# Altium schematic symbol library SCH_ESP32-C3-MINI-1_V1.1_20210414_Library.SchLib: 68 symbols
Pins are listed as number, name and electrical type; pins without a type are passive.

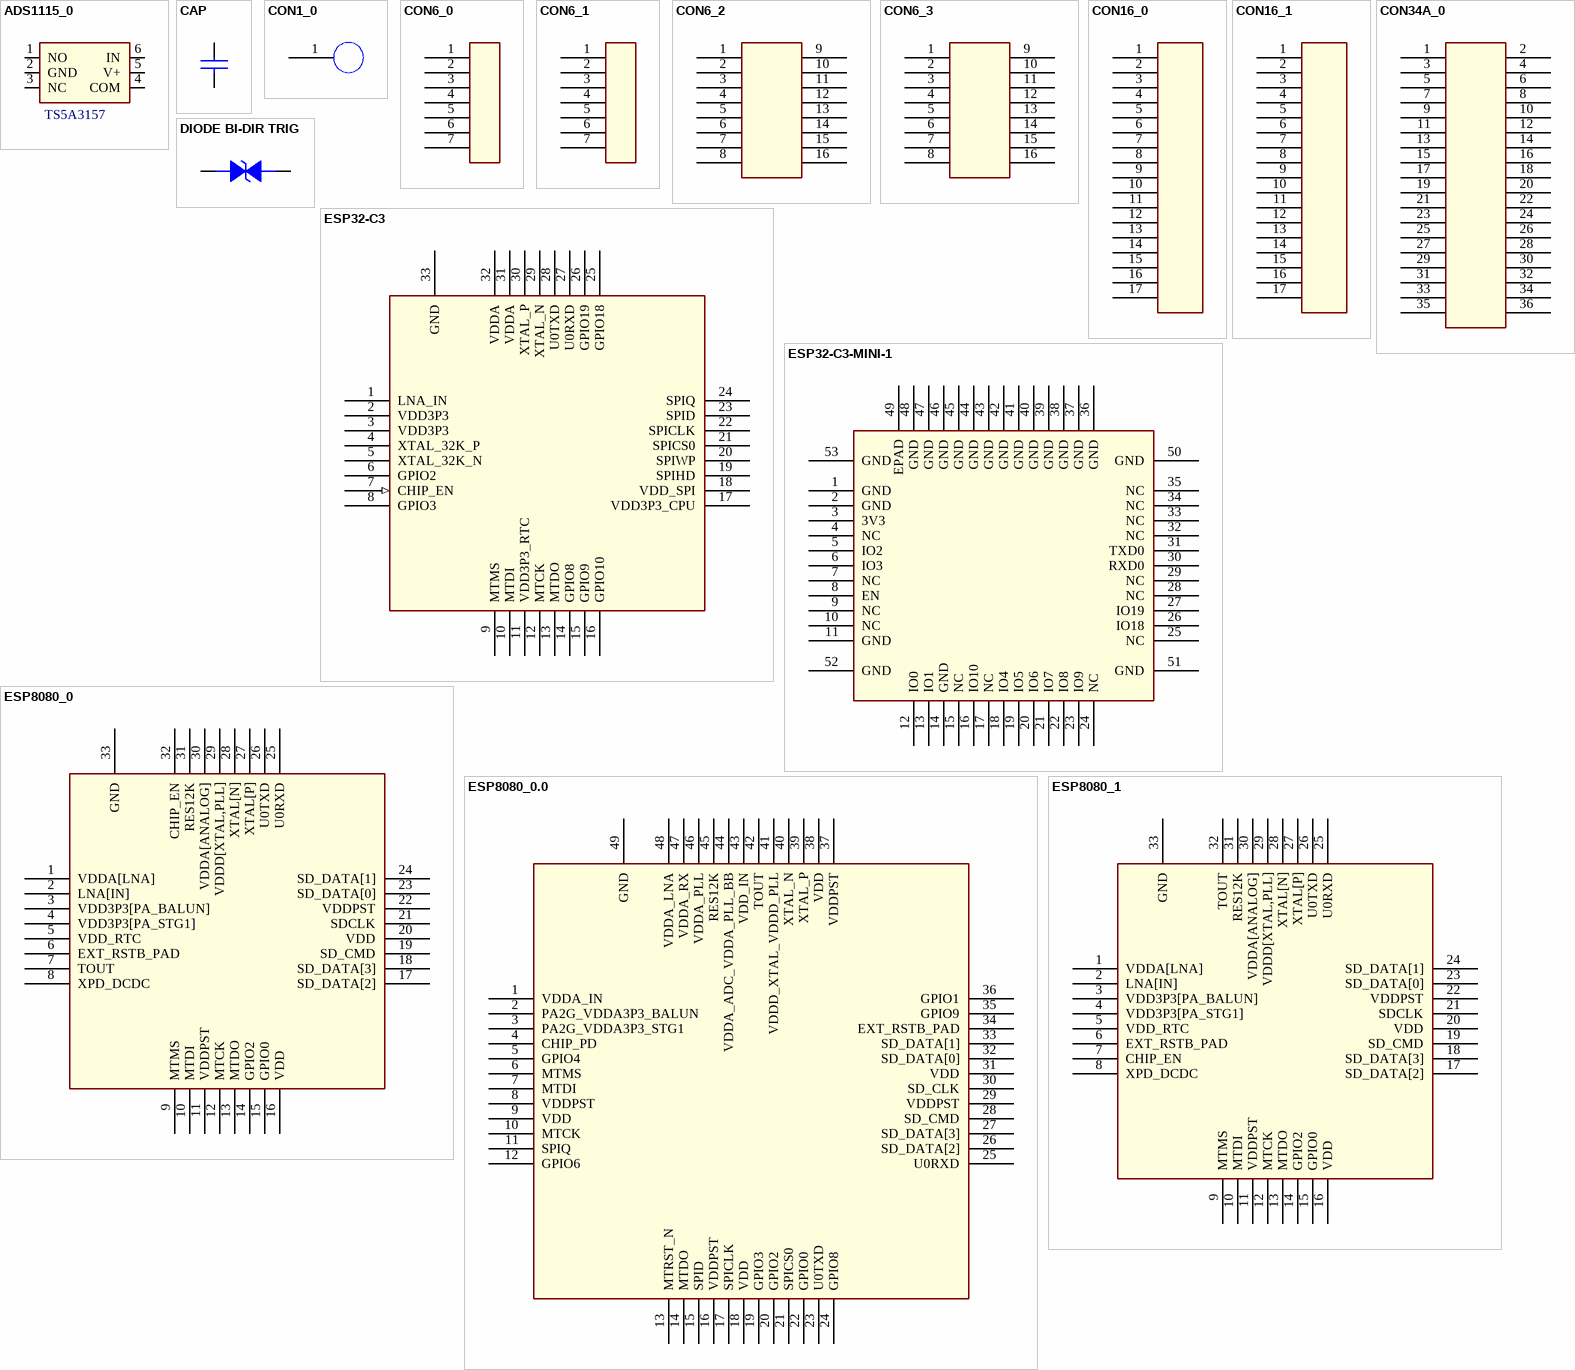
[diagram p0: symbols ADS1115_0 to ESP8080_1]

## ADS1115_0
designator U?, comment TS5A3157
pins: 1 NO, 2 GND (power), 3 NC, 4 COM, 5 V+ (power), 6 IN

## CAP
designator C?
pins: 1, 2

## CON1_0
designator J?
pins: 1

## CON6_0
designator J?
pins: 1, 2, 3, 4, 5, 6, 7 6

## CON6_1
designator J?
pins: 1, 2, 3, 4, 5, 6, 7

## CON6_2
designator J?
pins: 1, 2, 3, 4, 5, 6, 7, 8, 9, 10, 11, 12, 13, 14, 15, 16

## CON6_3
designator J?
pins: 1, 2, 3, 4, 5, 6, 7, 8, 9, 10, 11, 12, 13, 14, 15, 16

## CON16_0
designator J?
pins: 1, 2, 3, 4, 5, 6, 7, 8, 9, 10, 11, 12, 13, 14, 15, 16, 17

## CON16_1
designator J?
pins: 1, 2, 3, 4, 5, 6, 7, 8, 9, 10, 11, 12, 13, 14, 15, 16, 17

## CON34A_0
designator J?
pins: 1, 2, 3, 4, 5, 6, 7, 8, 9, 10, 11, 12, 13, 14, 15, 16, 17, 18, 19, 20, 21, 22, 23, 24, 25, 26, 27, 28, 29, 30, 31, 32, 33, 34, 35, 36

## DIODE BI-DIR TRIG
designator D?
footprint ESD0402
pins: 1, 2

## ESP32-C3
designator U?
pins: 1 LNA_IN, 2 VDD3P3 (power), 3 VDD3P3 (power), 4 XTAL_32K_P, 5 XTAL_32K_N, 6 GPIO2, 7 CHIP_EN (in), 8 GPIO3, 9 MTMS, 10 MTDI, 11 VDD3P3_RTC (power), 12 MTCK, 13 MTDO, 14 GPIO8, 15 GPIO9, 16 GPIO10, 17 VDD3P3_CPU (power), 18 VDD_SPI (power), 19 SPIHD, 20 SPIWP, 21 SPICS0, 22 SPICLK, 23 SPID, 24 SPIQ, 25 GPIO18, 26 GPIO19, 27 U0RXD, 28 U0TXD, 29 XTAL_N, 30 XTAL_P, 31 VDDA (power), 32 VDDA (power), 33 GND (power)

## ESP32-C3-MINI-1
designator U?
pins: 1 GND (power), 2 GND (power), 3 3V3 (power), 4 NC, 5 IO2, 6 IO3, 7 NC, 8 EN, 9 NC, 10 NC, 11 GND (power), 12 IO0, 13 IO1, 14 GND (power), 15 NC, 16 IO10, 17 NC, 18 IO4, 19 IO5, 20 IO6, 21 IO7, 22 IO8, 23 IO9, 24 NC, 25 NC, 26 IO18, 27 IO19, 28 NC, 29 NC, 30 RXD0, 31 TXD0, 32 NC, 33 NC, 34 NC, 35 NC, 36 GND (power), 37 GND (power), 38 GND (power), 39 GND (power), 40 GND (power), 41 GND (power), 42 GND (power), 43 GND (power), 44 GND (power), 45 GND (power), 46 GND (power), 47 GND (power), 48 GND (power), 49 EPAD (power), 50 GND (power), 51 GND (power), 52 GND (power), 53 GND (power)

## ESP8080_0
designator U?
pins: 1 VDDA[LNA] (power), 2 LNA[IN] (hiz), 3 VDD3P3[PA_BALUN] (power), 4 VDD3P3[PA_STG1] (power), 5 VDD_RTC (hiz), 6 EXT_RSTB_PAD (hiz), 7 TOUT (hiz), 8 XPD_DCDC (hiz), 9 MTMS, 10 MTDI, 11 VDDPST (power), 12 MTCK, 13 MTDO, 14 GPIO2, 15 GPIO0, 16 VDD (power), 17 SD_DATA[2], 18 SD_DATA[3], 19 SD_CMD, 20 VDD (power), 21 SDCLK, 22 VDDPST (power), 23 SD_DATA[0], 24 SD_DATA[1], 25 U0RXD, 26 U0TXD, 27 XTAL[P], 28 XTAL[N], 29 VDDD[XTAL,PLL] (power), 30 VDDA[ANALOG] (power), 31 RES12K, 32 CHIP_EN, 33 GND (power)

## ESP8080_0.0
designator U?
pins: 1 VDDA_IN, 2 PA2G_VDDA3P3_BALUN (power), 3 PA2G_VDDA3P3_STG1 (power), 4 CHIP_PD, 5 GPIO4 (hiz), 6 MTMS, 7 MTDI, 8 VDDPST (power), 9 VDD (power), 10 MTCK, 11 SPIQ, 12 GPIO6 (hiz), 13 MTRST_N, 14 MTDO, 15 SPID, 16 VDDPST (power), 17 SPICLK, 18 VDD (power), 19 GPIO3 (hiz), 20 GPIO2 (power), 21 SPICS0, 22 GPIO0 (hiz), 23 U0TXD, 24 GPIO8 (hiz), 25 U0RXD, 26 SD_DATA[2], 27 SD_DATA[3], 28 SD_CMD, 29 VDDPST (power), 30 SD_CLK, 31 VDD (power), 32 SD_DATA[0], 33 SD_DATA[1], 34 EXT_RSTB_PAD, 35 GPIO9 (hiz), 36 GPIO1 (hiz), 37 VDDPST (power), 38 VDD (power), 39 XTAL_P, 40 XTAL_N, 41 VDDD_XTAL_VDDD_PLL (power), 42 TOUT, 43 VDD_IN (power), 44 VDDA_ADC_VDDA_PLL_BB (power), 45 RES12K, 46 VDDA_PLL (power), 47 VDDA_RX (power), 48 VDDA_LNA (power), 49 GND (power)

## ESP8080_1
designator U?
pins: 1 VDDA[LNA] (power), 2 LNA[IN] (hiz), 3 VDD3P3[PA_BALUN] (power), 4 VDD3P3[PA_STG1] (power), 5 VDD_RTC (hiz), 6 EXT_RSTB_PAD (hiz), 7 CHIP_EN (hiz), 8 XPD_DCDC (hiz), 9 MTMS, 10 MTDI, 11 VDDPST (power), 12 MTCK, 13 MTDO, 14 GPIO2, 15 GPIO0, 16 VDD (power), 17 SD_DATA[2], 18 SD_DATA[3], 19 SD_CMD, 20 VDD (power), 21 SDCLK, 22 VDDPST (power), 23 SD_DATA[0], 24 SD_DATA[1], 25 U0RXD, 26 U0TXD, 27 XTAL[P], 28 XTAL[N], 29 VDDD[XTAL,PLL] (power), 30 VDDA[ANALOG] (power), 31 RES12K, 32 TOUT, 33 GND (power)

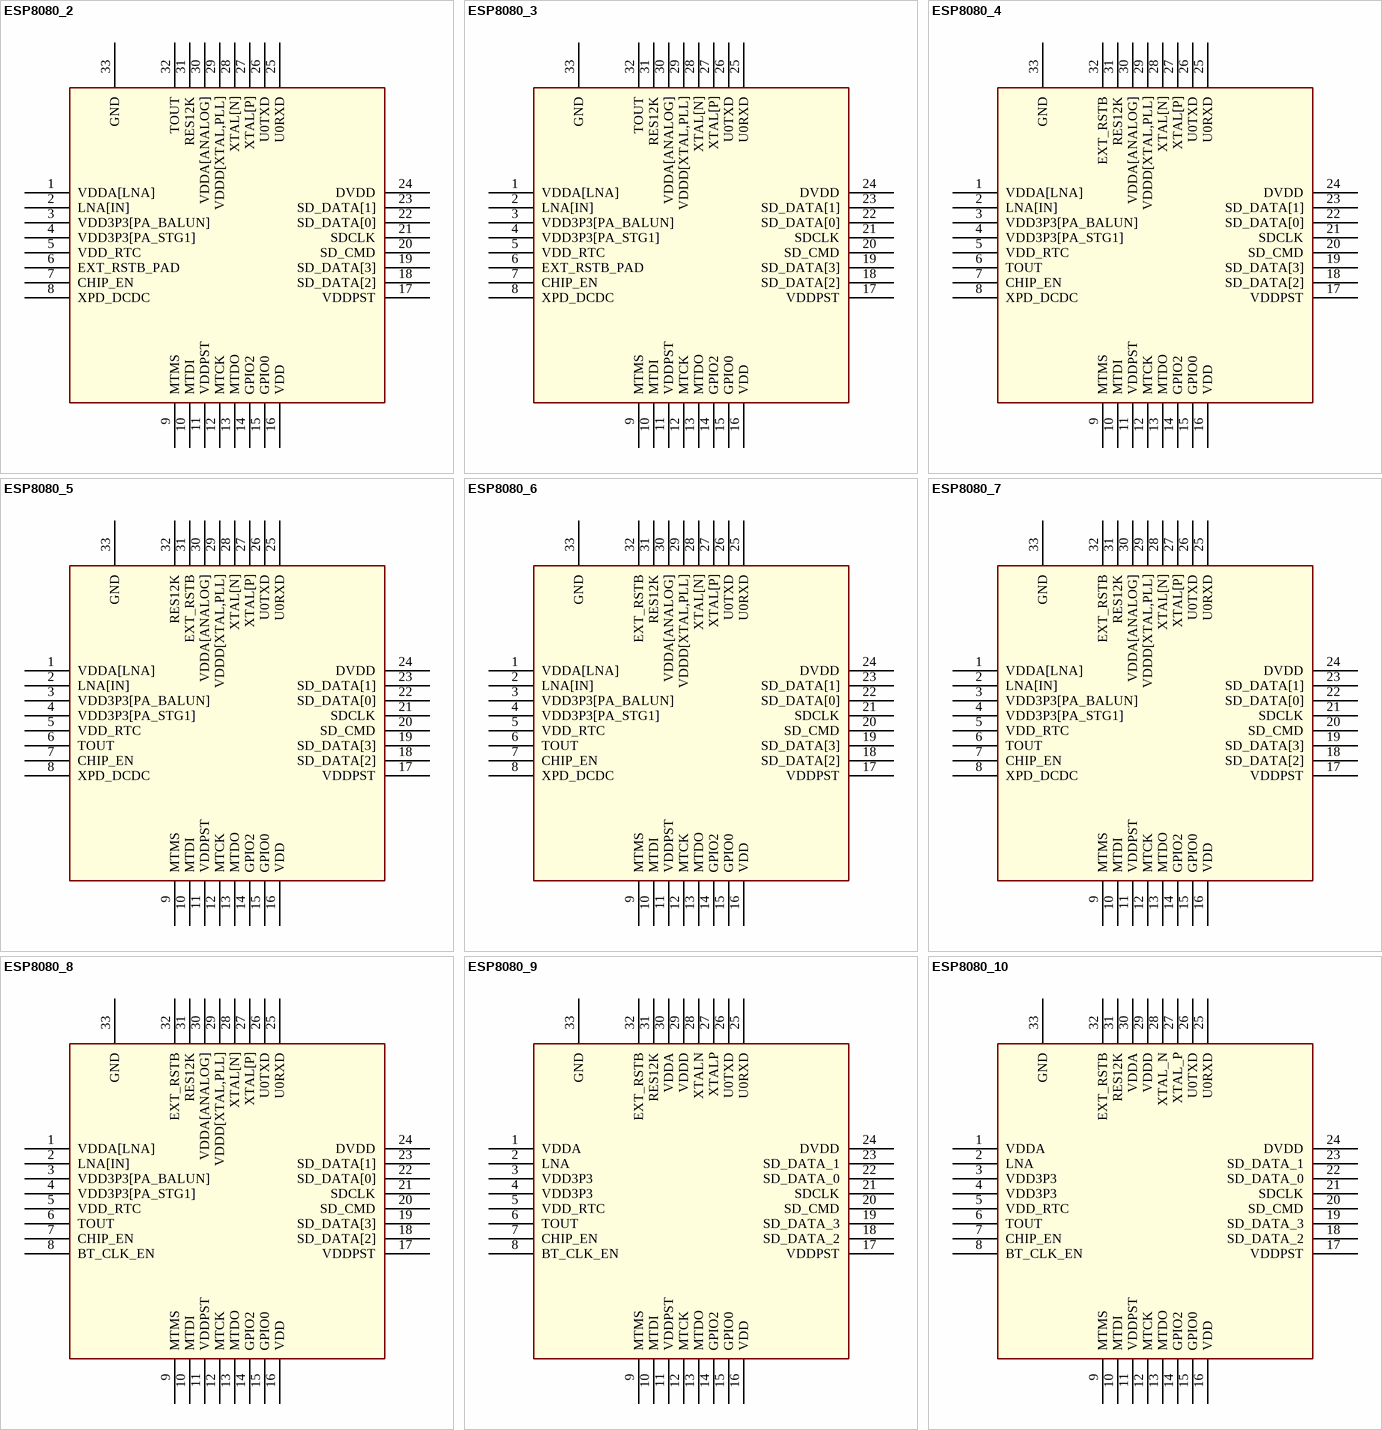
[diagram p1: symbols ESP8080_2 to ESP8080_10]

## ESP8080_2
designator U?
pins: 1 VDDA[LNA] (power), 2 LNA[IN] (hiz), 3 VDD3P3[PA_BALUN] (power), 4 VDD3P3[PA_STG1] (power), 5 VDD_RTC (hiz), 6 EXT_RSTB_PAD (hiz), 7 CHIP_EN (hiz), 8 XPD_DCDC (hiz), 9 MTMS, 10 MTDI, 11 VDDPST (power), 12 MTCK, 13 MTDO, 14 GPIO2, 15 GPIO0, 16 VDD (power), 17 VDDPST, 18 SD_DATA[2], 19 SD_DATA[3], 20 SD_CMD (power), 21 SDCLK, 22 SD_DATA[0] (power), 23 SD_DATA[1], 24 DVDD, 25 U0RXD, 26 U0TXD, 27 XTAL[P], 28 XTAL[N], 29 VDDD[XTAL,PLL] (power), 30 VDDA[ANALOG] (power), 31 RES12K, 32 TOUT, 33 GND (power)

## ESP8080_3
designator U?
pins: 1 VDDA[LNA] (power), 2 LNA[IN] (hiz), 3 VDD3P3[PA_BALUN] (power), 4 VDD3P3[PA_STG1] (power), 5 VDD_RTC (hiz), 6 EXT_RSTB_PAD (hiz), 7 CHIP_EN (hiz), 8 XPD_DCDC (hiz), 9 MTMS, 10 MTDI, 11 VDDPST (power), 12 MTCK, 13 MTDO, 14 GPIO2, 15 GPIO0, 16 VDD (power), 17 VDDPST (power), 18 SD_DATA[2], 19 SD_DATA[3], 20 SD_CMD, 21 SDCLK, 22 SD_DATA[0], 23 SD_DATA[1], 24 DVDD (power), 25 U0RXD, 26 U0TXD, 27 XTAL[P], 28 XTAL[N], 29 VDDD[XTAL,PLL] (power), 30 VDDA[ANALOG] (power), 31 RES12K, 32 TOUT, 33 GND (power)

## ESP8080_4
designator U?
pins: 1 VDDA[LNA] (power), 2 LNA[IN] (hiz), 3 VDD3P3[PA_BALUN] (power), 4 VDD3P3[PA_STG1] (power), 5 VDD_RTC (hiz), 6 TOUT (hiz), 7 CHIP_EN (hiz), 8 XPD_DCDC (hiz), 9 MTMS, 10 MTDI, 11 VDDPST (power), 12 MTCK, 13 MTDO, 14 GPIO2, 15 GPIO0, 16 VDD (power), 17 VDDPST (power), 18 SD_DATA[2], 19 SD_DATA[3], 20 SD_CMD, 21 SDCLK, 22 SD_DATA[0], 23 SD_DATA[1], 24 DVDD (power), 25 U0RXD, 26 U0TXD, 27 XTAL[P], 28 XTAL[N], 29 VDDD[XTAL,PLL] (power), 30 VDDA[ANALOG] (power), 31 RES12K, 32 EXT_RSTB, 33 GND (power)

## ESP8080_5
designator U?
pins: 1 VDDA[LNA] (power), 2 LNA[IN] (hiz), 3 VDD3P3[PA_BALUN] (power), 4 VDD3P3[PA_STG1] (power), 5 VDD_RTC (hiz), 6 TOUT (hiz), 7 CHIP_EN (hiz), 8 XPD_DCDC (hiz), 9 MTMS, 10 MTDI, 11 VDDPST (power), 12 MTCK, 13 MTDO, 14 GPIO2, 15 GPIO0, 16 VDD (power), 17 VDDPST (power), 18 SD_DATA[2], 19 SD_DATA[3], 20 SD_CMD, 21 SDCLK, 22 SD_DATA[0], 23 SD_DATA[1], 24 DVDD (power), 25 U0RXD, 26 U0TXD, 27 XTAL[P], 28 XTAL[N], 29 VDDD[XTAL,PLL] (power), 30 VDDA[ANALOG] (power), 31 EXT_RSTB, 32 RES12K, 33 GND (power)

## ESP8080_6
designator U?
pins: 1 VDDA[LNA] (power), 2 LNA[IN] (hiz), 3 VDD3P3[PA_BALUN] (power), 4 VDD3P3[PA_STG1] (power), 5 VDD_RTC (hiz), 6 TOUT (hiz), 7 CHIP_EN (hiz), 8 XPD_DCDC (hiz), 9 MTMS, 10 MTDI, 11 VDDPST (power), 12 MTCK, 13 MTDO, 14 GPIO2, 15 GPIO0, 16 VDD (power), 17 VDDPST (power), 18 SD_DATA[2], 19 SD_DATA[3], 20 SD_CMD, 21 SDCLK, 22 SD_DATA[0], 23 SD_DATA[1], 24 DVDD (power), 25 U0RXD, 26 U0TXD, 27 XTAL[P], 28 XTAL[N], 29 VDDD[XTAL,PLL] (power), 30 VDDA[ANALOG] (power), 31 RES12K, 32 EXT_RSTB, 33 GND (power)

## ESP8080_7
designator U?
pins: 1 VDDA[LNA] (power), 2 LNA[IN] (hiz), 3 VDD3P3[PA_BALUN] (power), 4 VDD3P3[PA_STG1] (power), 5 VDD_RTC (hiz), 6 TOUT (hiz), 7 CHIP_EN (hiz), 8 XPD_DCDC (hiz), 9 MTMS, 10 MTDI, 11 VDDPST (power), 12 MTCK, 13 MTDO, 14 GPIO2, 15 GPIO0, 16 VDD (hiz), 17 VDDPST (power), 18 SD_DATA[2], 19 SD_DATA[3], 20 SD_CMD, 21 SDCLK, 22 SD_DATA[0], 23 SD_DATA[1], 24 DVDD (hiz), 25 U0RXD, 26 U0TXD, 27 XTAL[P], 28 XTAL[N], 29 VDDD[XTAL,PLL] (power), 30 VDDA[ANALOG] (power), 31 RES12K, 32 EXT_RSTB, 33 GND (power)

## ESP8080_8
designator U?
pins: 1 VDDA[LNA] (power), 2 LNA[IN] (hiz), 3 VDD3P3[PA_BALUN] (power), 4 VDD3P3[PA_STG1] (power), 5 VDD_RTC (hiz), 6 TOUT (hiz), 7 CHIP_EN (hiz), 8 BT_CLK_EN (hiz), 9 MTMS, 10 MTDI, 11 VDDPST (power), 12 MTCK, 13 MTDO, 14 GPIO2, 15 GPIO0, 16 VDD (hiz), 17 VDDPST (power), 18 SD_DATA[2], 19 SD_DATA[3], 20 SD_CMD, 21 SDCLK, 22 SD_DATA[0], 23 SD_DATA[1], 24 DVDD (hiz), 25 U0RXD, 26 U0TXD, 27 XTAL[P], 28 XTAL[N], 29 VDDD[XTAL,PLL] (power), 30 VDDA[ANALOG] (power), 31 RES12K, 32 EXT_RSTB, 33 GND (power)

## ESP8080_9
designator U?
pins: 1 VDDA (power), 2 LNA (hiz), 3 VDD3P3 (power), 4 VDD3P3 (power), 5 VDD_RTC (hiz), 6 TOUT (hiz), 7 CHIP_EN (hiz), 8 BT_CLK_EN (hiz), 9 MTMS, 10 MTDI, 11 VDDPST (power), 12 MTCK, 13 MTDO, 14 GPIO2, 15 GPIO0, 16 VDD (hiz), 17 VDDPST (power), 18 SD_DATA_2, 19 SD_DATA_3, 20 SD_CMD, 21 SDCLK, 22 SD_DATA_0, 23 SD_DATA_1, 24 DVDD (hiz), 25 U0RXD, 26 U0TXD, 27 XTALP, 28 XTALN, 29 VDDD (power), 30 VDDA (power), 31 RES12K, 32 EXT_RSTB, 33 GND (power)

## ESP8080_10
designator U?
pins: 1 VDDA (power), 2 LNA (hiz), 3 VDD3P3 (power), 4 VDD3P3 (power), 5 VDD_RTC (hiz), 6 TOUT (hiz), 7 CHIP_EN (hiz), 8 BT_CLK_EN (hiz), 9 MTMS, 10 MTDI, 11 VDDPST (power), 12 MTCK, 13 MTDO, 14 GPIO2, 15 GPIO0, 16 VDD (hiz), 17 VDDPST (power), 18 SD_DATA_2, 19 SD_DATA_3, 20 SD_CMD, 21 SDCLK, 22 SD_DATA_0, 23 SD_DATA_1, 24 DVDD (hiz), 25 U0RXD, 26 U0TXD, 27 XTAL_P, 28 XTAL_N, 29 VDDD (power), 30 VDDA (power), 31 RES12K, 32 EXT_RSTB, 33 GND (power)

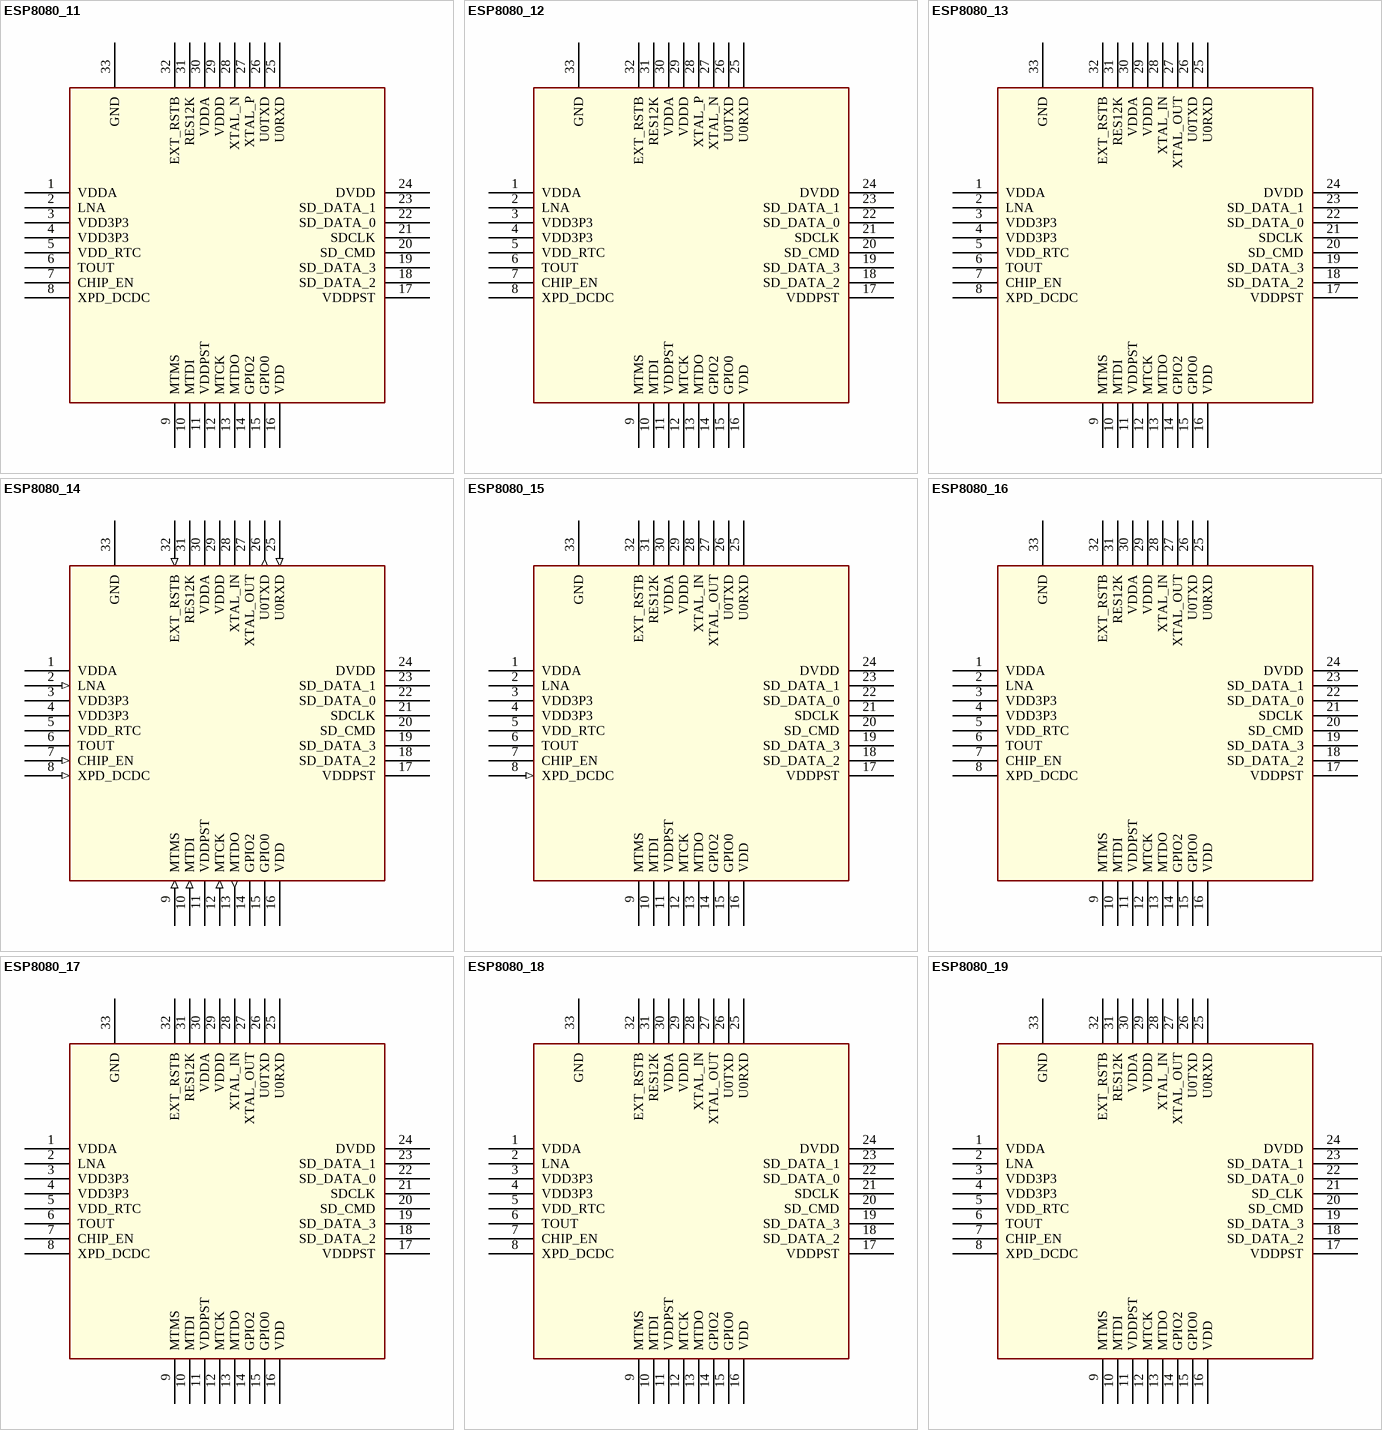
[diagram p2: symbols ESP8080_11 to ESP8080_19]

## ESP8080_11
designator U?
pins: 1 VDDA (power), 2 LNA (hiz), 3 VDD3P3 (power), 4 VDD3P3 (power), 5 VDD_RTC (hiz), 6 TOUT (hiz), 7 CHIP_EN (hiz), 8 XPD_DCDC (hiz), 9 MTMS, 10 MTDI, 11 VDDPST (power), 12 MTCK, 13 MTDO, 14 GPIO2, 15 GPIO0, 16 VDD (hiz), 17 VDDPST (power), 18 SD_DATA_2, 19 SD_DATA_3, 20 SD_CMD, 21 SDCLK, 22 SD_DATA_0, 23 SD_DATA_1, 24 DVDD (hiz), 25 U0RXD, 26 U0TXD, 27 XTAL_P, 28 XTAL_N, 29 VDDD (power), 30 VDDA (power), 31 RES12K, 32 EXT_RSTB, 33 GND (power)

## ESP8080_12
designator U?
pins: 1 VDDA (power), 2 LNA (hiz), 3 VDD3P3 (power), 4 VDD3P3 (power), 5 VDD_RTC (hiz), 6 TOUT (hiz), 7 CHIP_EN (hiz), 8 XPD_DCDC (hiz), 9 MTMS, 10 MTDI, 11 VDDPST (power), 12 MTCK, 13 MTDO, 14 GPIO2, 15 GPIO0, 16 VDD (hiz), 17 VDDPST (power), 18 SD_DATA_2, 19 SD_DATA_3, 20 SD_CMD, 21 SDCLK, 22 SD_DATA_0, 23 SD_DATA_1, 24 DVDD (hiz), 25 U0RXD, 26 U0TXD, 27 XTAL_N, 28 XTAL_P, 29 VDDD (power), 30 VDDA (power), 31 RES12K, 32 EXT_RSTB, 33 GND (power)

## ESP8080_13
designator U?
pins: 1 VDDA (power), 2 LNA (hiz), 3 VDD3P3 (power), 4 VDD3P3 (power), 5 VDD_RTC (hiz), 6 TOUT (hiz), 7 CHIP_EN (hiz), 8 XPD_DCDC (hiz), 9 MTMS, 10 MTDI, 11 VDDPST (power), 12 MTCK, 13 MTDO, 14 GPIO2, 15 GPIO0, 16 VDD (hiz), 17 VDDPST (power), 18 SD_DATA_2, 19 SD_DATA_3, 20 SD_CMD, 21 SDCLK, 22 SD_DATA_0, 23 SD_DATA_1, 24 DVDD (hiz), 25 U0RXD, 26 U0TXD, 27 XTAL_OUT, 28 XTAL_IN, 29 VDDD (power), 30 VDDA (power), 31 RES12K, 32 EXT_RSTB, 33 GND (power)

## ESP8080_14
designator U?
pins: 1 VDDA (power), 2 LNA (in), 3 VDD3P3 (power), 4 VDD3P3 (power), 5 VDD_RTC, 6 TOUT, 7 CHIP_EN (in), 8 XPD_DCDC (in), 9 MTMS (in), 10 MTDI (in), 11 VDDPST (power), 12 MTCK (in), 13 MTDO (out), 14 GPIO2, 15 GPIO0, 16 VDD (hiz), 17 VDDPST (power), 18 SD_DATA_2, 19 SD_DATA_3, 20 SD_CMD, 21 SDCLK, 22 SD_DATA_0, 23 SD_DATA_1, 24 DVDD, 25 U0RXD (in), 26 U0TXD (out), 27 XTAL_OUT, 28 XTAL_IN, 29 VDDD (power), 30 VDDA (power), 31 RES12K, 32 EXT_RSTB (in), 33 GND (power)

## ESP8080_15
designator U?
pins: 1 VDDA (power), 2 LNA, 3 VDD3P3 (power), 4 VDD3P3 (power), 5 VDD_RTC, 6 TOUT, 7 CHIP_EN, 8 XPD_DCDC (in), 9 MTMS, 10 MTDI, 11 VDDPST (power), 12 MTCK, 13 MTDO, 14 GPIO2, 15 GPIO0, 16 VDD, 17 VDDPST (power), 18 SD_DATA_2, 19 SD_DATA_3, 20 SD_CMD, 21 SDCLK, 22 SD_DATA_0, 23 SD_DATA_1, 24 DVDD, 25 U0RXD, 26 U0TXD, 27 XTAL_OUT, 28 XTAL_IN, 29 VDDD (power), 30 VDDA (power), 31 RES12K, 32 EXT_RSTB, 33 GND (power)

## ESP8080_16
designator U?
pins: 1 VDDA (power), 2 LNA, 3 VDD3P3 (power), 4 VDD3P3 (power), 5 VDD_RTC, 6 TOUT, 7 CHIP_EN, 8 XPD_DCDC, 9 MTMS, 10 MTDI, 11 VDDPST (power), 12 MTCK, 13 MTDO, 14 GPIO2, 15 GPIO0, 16 VDD, 17 VDDPST (power), 18 SD_DATA_2, 19 SD_DATA_3, 20 SD_CMD, 21 SDCLK, 22 SD_DATA_0, 23 SD_DATA_1, 24 DVDD, 25 U0RXD, 26 U0TXD, 27 XTAL_OUT, 28 XTAL_IN, 29 VDDD (power), 30 VDDA (power), 31 RES12K, 32 EXT_RSTB, 33 GND (power)

## ESP8080_17
designator U?
pins: 1 VDDA (power), 2 LNA, 3 VDD3P3 (power), 4 VDD3P3 (power), 5 VDD_RTC, 6 TOUT, 7 CHIP_EN, 8 XPD_DCDC, 9 MTMS, 10 MTDI, 11 VDDPST (power), 12 MTCK, 13 MTDO, 14 GPIO2, 15 GPIO0, 16 VDD, 17 VDDPST (power), 18 SD_DATA_2, 19 SD_DATA_3, 20 SD_CMD, 21 SDCLK, 22 SD_DATA_0, 23 SD_DATA_1, 24 DVDD, 25 U0RXD, 26 U0TXD, 27 XTAL_OUT, 28 XTAL_IN, 29 VDDD (power), 30 VDDA (power), 31 RES12K, 32 EXT_RSTB, 33 GND (power)

## ESP8080_18
designator U?
pins: 1 VDDA (power), 2 LNA, 3 VDD3P3 (power), 4 VDD3P3 (power), 5 VDD_RTC, 6 TOUT, 7 CHIP_EN, 8 XPD_DCDC, 9 MTMS, 10 MTDI, 11 VDDPST (power), 12 MTCK, 13 MTDO, 14 GPIO2, 15 GPIO0, 16 VDD, 17 VDDPST (power), 18 SD_DATA_2, 19 SD_DATA_3, 20 SD_CMD, 21 SDCLK, 22 SD_DATA_0, 23 SD_DATA_1, 24 DVDD, 25 U0RXD, 26 U0TXD, 27 XTAL_OUT, 28 XTAL_IN, 29 VDDD (power), 30 VDDA (power), 31 RES12K, 32 EXT_RSTB, 33 GND (power)

## ESP8080_19
designator U?
pins: 1 VDDA (power), 2 LNA, 3 VDD3P3 (power), 4 VDD3P3 (power), 5 VDD_RTC, 6 TOUT, 7 CHIP_EN, 8 XPD_DCDC, 9 MTMS, 10 MTDI, 11 VDDPST (power), 12 MTCK, 13 MTDO, 14 GPIO2, 15 GPIO0, 16 VDD, 17 VDDPST (power), 18 SD_DATA_2, 19 SD_DATA_3, 20 SD_CMD, 21 SD_CLK, 22 SD_DATA_0, 23 SD_DATA_1, 24 DVDD, 25 U0RXD, 26 U0TXD, 27 XTAL_OUT, 28 XTAL_IN, 29 VDDD (power), 30 VDDA (power), 31 RES12K, 32 EXT_RSTB, 33 GND (power)

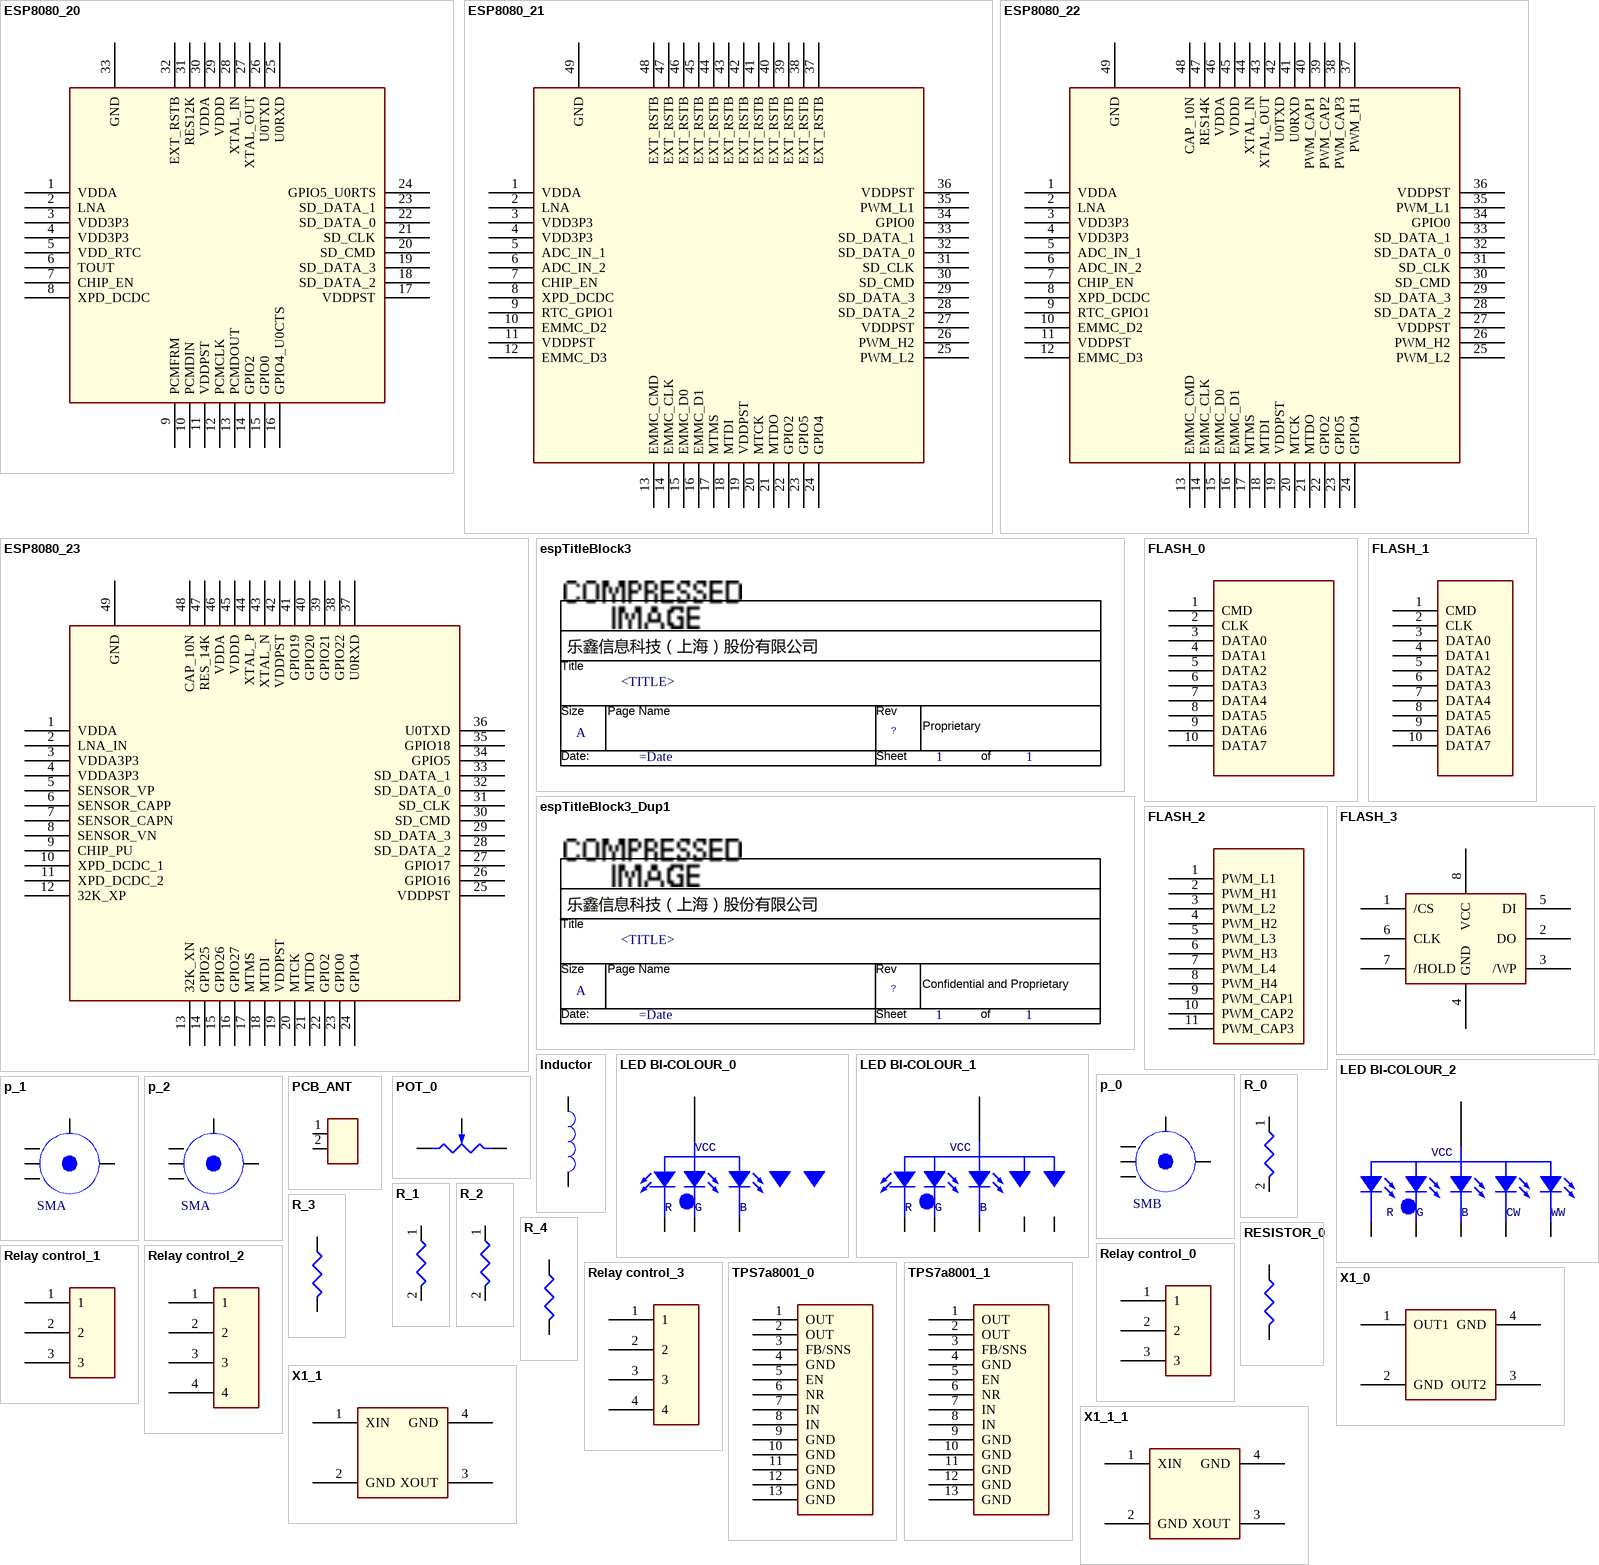
[diagram p3: symbols ESP8080_20 to X1_1_1]

## ESP8080_20
designator U?
pins: 1 VDDA (power), 2 LNA, 3 VDD3P3 (power), 4 VDD3P3 (power), 5 VDD_RTC, 6 TOUT, 7 CHIP_EN, 8 XPD_DCDC, 9 PCMFRM, 10 PCMDIN, 11 VDDPST (power), 12 PCMCLK, 13 PCMDOUT, 14 GPIO2, 15 GPIO0, 16 GPIO4_U0CTS, 17 VDDPST (power), 18 SD_DATA_2, 19 SD_DATA_3, 20 SD_CMD, 21 SD_CLK, 22 SD_DATA_0, 23 SD_DATA_1, 24 GPIO5_U0RTS, 25 U0RXD, 26 U0TXD, 27 XTAL_OUT, 28 XTAL_IN, 29 VDDD (power), 30 VDDA (power), 31 RES12K, 32 EXT_RSTB, 33 GND (power)

## ESP8080_21
designator U?
pins: 1 VDDA (power), 2 LNA, 3 VDD3P3 (power), 4 VDD3P3 (power), 5 ADC_IN_1, 6 ADC_IN_2, 7 CHIP_EN, 8 XPD_DCDC, 9 RTC_GPIO1, 10 EMMC_D2, 11 VDDPST (power), 12 EMMC_D3, 13 EMMC_CMD, 14 EMMC_CLK, 15 EMMC_D0, 16 EMMC_D1, 17 MTMS (power), 18 MTDI, 19 VDDPST, 20 MTCK, 21 MTDO, 22 GPIO2, 23 GPIO5, 24 GPIO4, 25 PWM_L2, 26 PWM_H2, 27 VDDPST, 28 SD_DATA_2, 29 SD_DATA_3 (power), 30 SD_CMD (power), 31 SD_CLK, 32 SD_DATA_0, 33 SD_DATA_1, 34 GPIO0, 35 PWM_L1, 36 VDDPST, 37 EXT_RSTB, 38 EXT_RSTB, 39 EXT_RSTB, 40 EXT_RSTB, 41 EXT_RSTB, 42 EXT_RSTB, 43 EXT_RSTB, 44 EXT_RSTB, 45 EXT_RSTB, 46 EXT_RSTB, 47 EXT_RSTB, 48 EXT_RSTB, 49 GND (power)

## ESP8080_22
designator U?
pins: 1 VDDA (power), 2 LNA, 3 VDD3P3 (power), 4 VDD3P3 (power), 5 ADC_IN_1, 6 ADC_IN_2, 7 CHIP_EN, 8 XPD_DCDC, 9 RTC_GPIO1, 10 EMMC_D2, 11 VDDPST (power), 12 EMMC_D3, 13 EMMC_CMD, 14 EMMC_CLK, 15 EMMC_D0, 16 EMMC_D1, 17 MTMS (power), 18 MTDI, 19 VDDPST (power), 20 MTCK, 21 MTDO, 22 GPIO2, 23 GPIO5, 24 GPIO4, 25 PWM_L2, 26 PWM_H2, 27 VDDPST (power), 28 SD_DATA_2, 29 SD_DATA_3 (power), 30 SD_CMD (power), 31 SD_CLK, 32 SD_DATA_0, 33 SD_DATA_1, 34 GPIO0, 35 PWM_L1, 36 VDDPST (power), 37 PWM_H1, 38 PWM_CAP3, 39 PWM_CAP2, 40 PWM_CAP1, 41 U0RXD, 42 U0TXD, 43 XTAL_OUT, 44 XTAL_IN, 45 VDDD (power), 46 VDDA (power), 47 RES14K, 48 CAP_10N, 49 GND (power)

## ESP8080_23
designator U?
pins: 1 VDDA (power), 2 LNA_IN, 3 VDDA3P3 (power), 4 VDDA3P3 (power), 5 SENSOR_VP, 6 SENSOR_CAPP, 7 SENSOR_CAPN, 8 SENSOR_VN, 9 CHIP_PU, 10 XPD_DCDC_1, 11 XPD_DCDC_2, 12 32K_XP, 13 32K_XN, 14 GPIO25, 15 GPIO26, 16 GPIO27, 17 MTMS, 18 MTDI, 19 VDDPST (power), 20 MTCK, 21 MTDO, 22 GPIO2, 23 GPIO0, 24 GPIO4, 25 VDDPST (power), 26 GPIO16, 27 GPIO17, 28 SD_DATA_2, 29 SD_DATA_3, 30 SD_CMD, 31 SD_CLK, 32 SD_DATA_0, 33 SD_DATA_1, 34 GPIO5, 35 GPIO18, 36 U0TXD, 37 U0RXD, 38 GPIO22, 39 GPIO21, 40 GPIO20, 41 GPIO19, 42 VDDPST (power), 43 XTAL_N, 44 XTAL_P, 45 VDDD (power), 46 VDDA (power), 47 RES_14K, 48 CAP_10N, 49 GND (power)

## espTitleBlock3
designator *  Title: <TITLE>  Page Size: A  Page Number: 1  (hidden comment: *)  (graphical)
Page Name: V; Page Create Date: March  8, 1995; Page Count: 1; RevCode: ?; Page Modify Date: =Date
text: Title; Size; Page Name; Rev; Proprietary; Date:; Sheet; of

## espTitleBlock3_Dup1
designator *  Title: <TITLE>  Page Size: A  Page Number: 1  (hidden comment: *)  (graphical)
Page Name: V; Page Create Date: March  8, 1995; Page Count: 1; RevCode: ?; Page Modify Date: =Date
text: Title; Size; Page Name; Rev; Confidential and Proprietary; Date:; Sheet; of

## FLASH_0
designator U?, comment W25Q32/SOIC8  (value not drawn)
pins: 1 CMD, 2 CLK, 3 DATA0, 4 DATA1, 5 DATA2, 6 DATA3, 7 DATA4, 8 DATA5, 9 DATA6, 10 DATA7

## FLASH_1
designator U?, comment W25Q32/SOIC8  (value not drawn)
pins: 1 CMD, 2 CLK, 3 DATA0, 4 DATA1, 5 DATA2, 6 DATA3, 7 DATA4, 8 DATA5, 9 DATA6, 10 DATA7

## FLASH_2
designator U?, comment W25Q32/SOIC8  (value not drawn)
pins: 1 PWM_L1, 2 PWM_H1, 3 PWM_L2, 4 PWM_H2, 5 PWM_L3, 6 PWM_H3, 7 PWM_L4, 8 PWM_H4, 9 PWM_CAP1, 10 PWM_CAP2, 11 PWM_CAP3

## FLASH_3
designator U?, comment W25Q32/SOIC8  (value not drawn)
pins: 1 /CS, 2 DO, 3 /WP, 4 GND, 5 DI, 6 CLK, 7 /HOLD, 8 VCC

## Inductor
designator L?
pins: 1, 2

## LED BI-COLOUR_0
designator D?
pins: 1 R, 2 G, 3 B, 4 VCC

## LED BI-COLOUR_1
designator D?
pins: 1 R, 2 G, 3 B, 3 B, 3 B, 4 VCC

## LED BI-COLOUR_2
designator D?
pins: 1 R, 2 G, 3 B, 4 CW, 5 WW, 6 VCC

## p_0
designator P?, comment SMB
pins: 1, 2 (power), 3 (power), 4 (power), 5

## p_1
designator P?, comment SMA
pins: 1, 2 (power), 3 (power), 4 (power), 5

## p_2
designator P?, comment SMA
pins: 1, 2 (power), 3 (power), 4 (power), 5

## PCB_ANT
designator J?
pins: 1, 2

## POT_0
designator R?
pins: 1 A, 2 B, 3 C

## R_0
designator R?
pins: 1, 2

## R_1
designator R?
pins: 1, 2

## R_2
designator R?
pins: 1, 2

## R_3
designator R?
pins: 1, 2

## R_4
designator R?
pins: 1, 2

## Relay control_0
designator U?
pins: 1, 2, 3

## Relay control_1
designator U?
pins: 1, 2, 3

## Relay control_2
designator U?
pins: 1, 2, 3, 4

## Relay control_3
designator U?
pins: 1, 2, 3, 4

## RESISTOR_0
designator R?
pins: 1, 2

## TPS7a8001_0
designator U?
pins: 1 OUT (power), 2 OUT (power), 3 FB/SNS (hiz), 4 GND (power), 5 EN (power), 6 NR (hiz), 7 IN (power), 8 IN (power), 9 GND (power), 10 GND (power), 11 GND (power), 12 GND (power), 13 GND (power)

## TPS7a8001_1
designator U?
pins: 1 OUT (power), 2 OUT (power), 3 FB/SNS, 4 GND (power), 5 EN, 6 NR, 7 IN (power), 8 IN (power), 9 GND (power), 10 GND (power), 11 GND (power), 12 GND (power), 13 GND (power)

## X1_0
designator U?
pins: 1 OUT1, 2 GND (power), 3 OUT2, 4 GND (power)

## X1_1
designator U?
pins: 1 XIN, 2 GND (power), 3 XOUT, 4 GND (power)

## X1_1_1
designator U?
pins: 1 XIN, 2 GND (power), 3 XOUT, 4 GND (power)